# Altium schematic symbol library ic-rf-switch.SchLib: 8 symbols
Pins are listed as number, name and electrical type; pins without a type are passive.

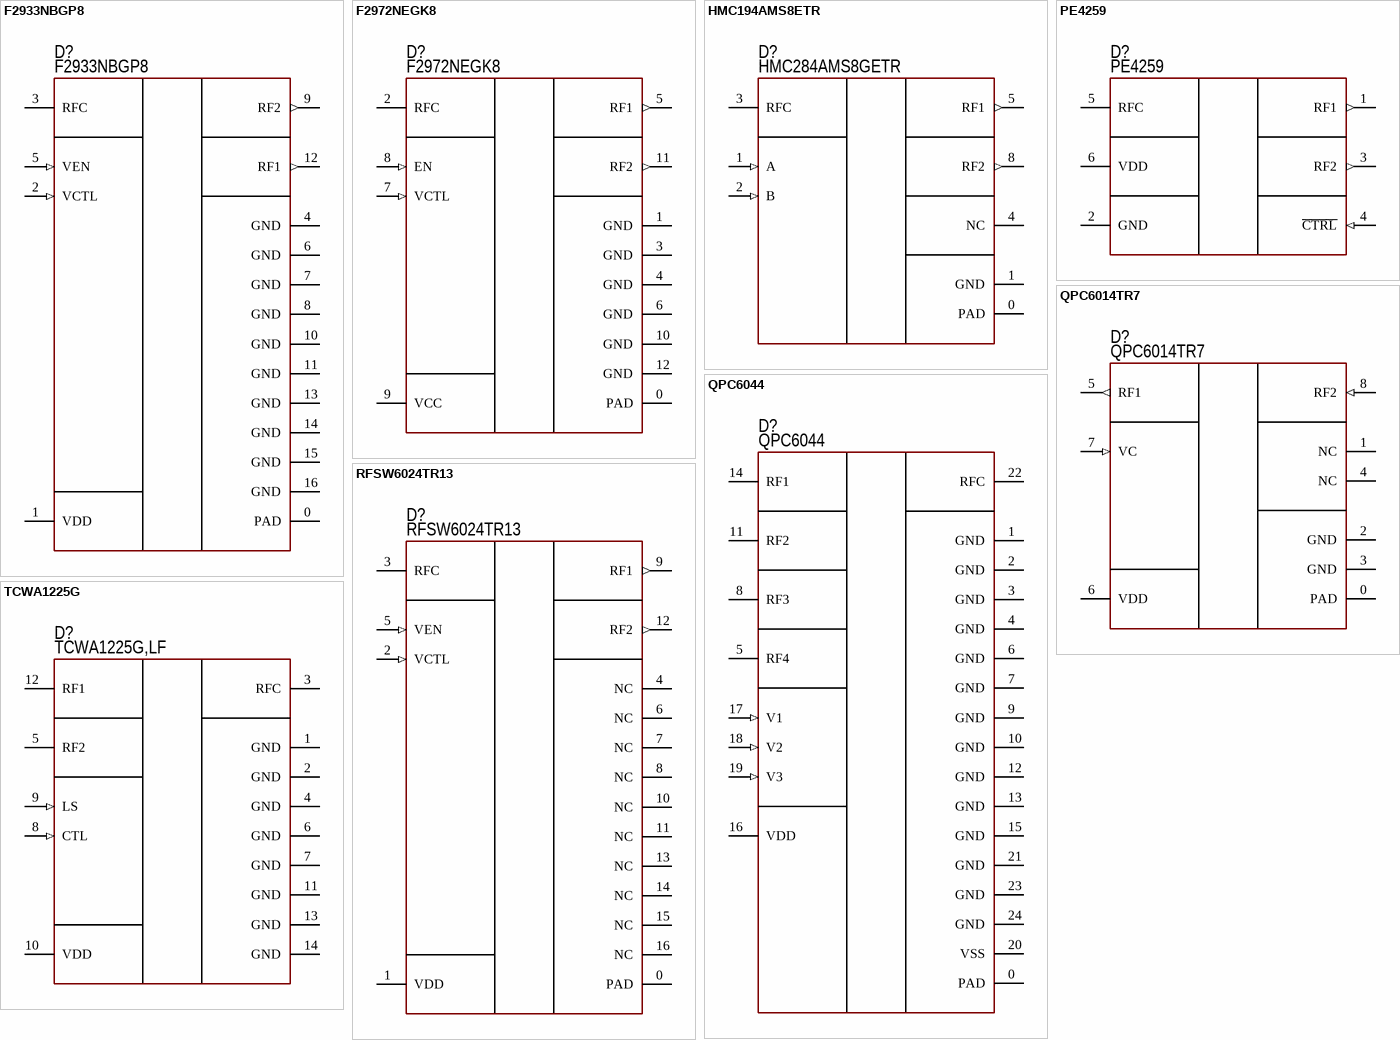
[diagram p0: symbols F2933NBGP8 to TCWA1225G]

## F2933NBGP8
designator D?  PartNumber: F2933NBGP8
RF Switch (SPDT); Manufacturer: Renesas; Supply: 2.7...5.5V; FrequencyRange: 5...8000MHz; InsertionLoss: <1.6dB; Isolation: >45dB; HelpURL: https://www.mouser.ee/datasheet/2/698/REN_F2933_DST_20160518_1-1997373.pdf; Package: 16-QFN; ComponentType: RF Switch; ValueManufacturerPartNumber: =ComponentType+', '+PulseResponseTime+', '+FrequencyRange+', '+Supply+', '+Temperature+', '+Package; Temperature: -40...+105°C
footprint 16-QFN (4x4) (4x4 mm, pitch 0.65 mm)
pins: 0 PAD (power), 1 VDD (power), 2 VCTL (in), 3 RFC, 4 GND, 5 VEN (in), 6 GND, 7 GND, 8 GND, 9 RF2 (out), 10 GND, 11 GND, 12 RF1 (out), 13 GND, 14 GND, 15 GND (power), 16 GND (power)

## F2972NEGK8
designator D?  PartNumber: F2972NEGK8
RF Switch; Manufacturer: Renesas Electronics; Supply: 2.5...5.25V; FrequencyRange: 5...10000MHz; InsertionLoss: 0.34dB; Isolation: 40dB; HelpURL: https://www.mouser.ee/datasheet/2/698/REN_F2972_DST_20170419-1997496.pdf; Package: 12-TQFN; ComponentType: RF Switch; ValueManufacturerPartNumber: =ComponentType+', '+PulseResponseTime+', '+FrequencyRange+', '+Supply+', '+Temperature+', '+Package; Temperature: -40...+105°C
footprint 12-TQFN (F2972) (size 2x2 mm, pitch 0.5 mm)
pins: 0 PAD (power), 1 GND (power), 2 RFC, 3 GND (power), 4 GND (power), 5 RF1 (out), 6 GND (power), 7 VCTL (in), 8 EN (in), 9 VCC (power), 10 GND (power), 11 RF2 (out), 12 GND (power)

## HMC194AMS8ETR
designator D?  PartNumber: HMC284AMS8GETR
RF Switch (SPDT); Manufacturer: Analog Devices; ControlVoltage: 0...5.V; FrequencyRange: 0...3500MHz; InsertionLoss: <0.7dB; Isolation: >45dB; HelpURL: https://www.analog.com/media/en/technical-documentation/data-sheets/hmc284a.pdf; Package: MSOP8G; ComponentType: RF Switch; ValueManufacturerPartNumber: =ComponentType+', '+PulseResponseTime+', '+FrequencyRange+', '+ControlVoltage+', '+Temperature+', '+Package; Temperature: -40...+85°C
footprint 10-MSOP-PAD (3x3 mm, pitch 0.5 mm)
pins: 0 PAD (power), 1 A (in), 1 GND (power), 2 B (in), 3 RFC, 4 NC, 5 RF1 (out), 8 RF2 (out)

## PE4259
designator D?  PartNumber: PE4259
RF Switch (SPDT); Manufacturer: Peregrine Semiconductor; Supply: 1.8...3.3V; FrequencyRange: 10...3000MHz; InsertionLoss: 0.5dB; Isolation: 30dB; HelpURL: https://www.lcsc.com/datasheet/lcsc_datasheet_1912201405_pSemi-PE4259-63_C470892.pdf; Package: SC-70; ComponentType: RF Switch; ValueManufacturerPartNumber: =ComponentType+', '+PulseResponseTime+', '+FrequencyRange+', '+Supply+', '+Temperature+', '+Package; Temperature: -40...+85°C
footprint SC70-6 (SOT23, 5-Leads, Body 2,90x2,80mm, Pitch 0,95mm, IPC Medium Density)
pins: 1 RF1 (out), 2 GND (power), 3 RF2 (out), 4 ~{CTRL} (in), 5 RFC, 6 VDD (power)

## QPC6014TR7
designator D?  PartNumber: QPC6014TR7
RF Switch (SPST); Manufacturer: Qorvo; ControlVoltage: 0...5.5V; FrequencyRange: 5...6000MHz; InsertionLoss: <1.05dB; Isolation: 43dB; HelpURL: https://www.mouser.ee/datasheet/2/412/QPC6014_Data_Sheet-1506843.pdf; Package: 8-DFN; ComponentType: RF Switch; ValueManufacturerPartNumber: =ComponentType+', '+PulseResponseTime+', '+FrequencyRange+', '+ControlVoltage+', '+Temperature+', '+Package; Temperature: -40...+105°C
footprint 8-DFN (2x2, 0.5 mm, QPL9504) (2x2 mm, pitch 0.5 mm, power pad)
pins: 0 PAD (power), 1 NC, 2 GND (power), 3 GND (power), 4 NC, 5 RF1 (out), 6 VDD (power), 7 VC (in), 8 RF2 (in)

## QPC6044
designator D?  PartNumber: QPC6044
RF Switch (SP4T); Manufacturer: Qorvo; Supply: 2.7...5.7V; FrequencyRange: 5...6000MHz; InsertionLoss: <1.2dB; Isolation: >45.5dB; HelpURL: https://www.mouser.ee/datasheet/2/412/QPC6044_Data_Sheet-1493763.pdf; Package: 24-QFN; ComponentType: RF Switch; ValueManufacturerPartNumber: =ComponentType+', '+PulseResponseTime+', '+FrequencyRange+', '+Supply+', '+Temperature+', '+Package; Temperature: -40...+105°C
footprint 24-QFN (4X4) (4x4 mm, pitch 0.5 mm, power pad)
pins: 0 PAD (power), 1 GND (power), 2 GND (power), 3 GND (power), 4 GND (power), 5 RF4, 6 GND (power), 7 GND (power), 8 RF3, 9 GND (power), 10 GND (power), 11 RF2, 12 GND (power), 13 GND (power), 14 RF1, 15 GND (power), 16 VDD (power), 17 V1 (in), 18 V2 (in), 19 V3 (in), 20 VSS (power), 21 GND (power), 22 RFC, 23 GND (power), 24 GND (power)

## RFSW6024TR13
designator D?  PartNumber: RFSW6024TR13
RF Switch (SPDT); Manufacturer: Qorvo; Supply: 2.5...5.25V; FrequencyRange: 5...6000MHz; InsertionLoss: 1.1dB; Isolation: 48dB; HelpURL: https://www.mouser.ee/datasheet/2/412/RFSW6024_Data_Sheet-1500569.pdf; Package: 16-QFN; ComponentType: RF Switch; ValueManufacturerPartNumber: =ComponentType+', '+PulseResponseTime+', '+FrequencyRange+', '+Supply+', '+Temperature+', '+Package; Temperature: -40...+105°C
footprint 16-QFN (4x4) (4x4 mm, pitch 0.65 mm)
pins: 0 PAD (power), 1 VDD (power), 2 VCTL (in), 3 RFC, 4 NC, 5 VEN (in), 6 NC, 7 NC, 8 NC, 9 RF1 (out), 10 NC, 11 NC, 12 RF2 (out), 13 NC, 14 NC, 15 NC (power), 16 NC (power)

## TCWA1225G
designator D?  PartNumber: TCWA1225G,LF
RF Switch (SPDT); Manufacturer: Qorvo; ValueManufacturerPartNumber: RF Switch, 700...5000MHz, 3...3.6V, -40...+105°C, 14-WCSP; Supply: 3...3.6V; FrequencyRange: 700...5000MHz; InsertionLoss: 0.6dB; Isolation: 50dB; HelpURL: https://www.mouser.ee/datasheet/3/105/1/TCWA1225G_datasheet_en_20240119.pdf; Package: 14-WCSP; ComponentType: RF Switch; Temperature: -40...+105°C
footprint 14-WLCSP (TCWA1225G)
pins: 1 GND (power), 2 GND (power), 3 RFC, 4 GND (power), 5 RF2, 6 GND (power), 7 GND (power), 8 CTL (in), 9 LS (in), 10 VDD (power), 11 GND (power), 12 RF1, 13 GND (power), 14 GND (power)